# Altium schematic symbol library Cap Pol.Schlib: 1 symbol
Pins are listed as number, name and electrical type; pins without a type are passive.

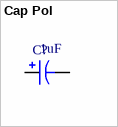
[diagram p0: symbol Cap Pol]

## Cap Pol
designator C?  value 1uF
Polarized Capacitor; Published: 8-Jun-2000; LatestRevisionDate: 17-Jul-2002; LatestRevisionNote: Re-released for DXP Platform.; PackageReference: POLAR0.8; Publisher: Altium Limited; PackageDescription: Polarized Capacitor; 2 Leads
footprint CAP-Electrolitic-Hor-p7.5mm-D16mm-L27mm
footprint CAP-Electrolitic-Hor-LA-p2.5mm-D4mm-L9mm
footprint CAP-Electrolitic-Hor-LA-p7.5mm-D16mm-L27mm
footprint Cap electrolitic radial 10x16-5 (Cap electrolitic radial 10x16-5-Design:Abbas Basereh)
footprint Cap electrolitic radial 8x12-3.5 (Cap electrolitic radial 8x12-3.5-Design:Abbas Basereh)
footprint Cap electrolitic HOR-8x12-P3.5 (Cap electrolitic horisontal 8x12-3.5-Design:Mostafa)
pins: 1, 2
1 alternate drawing of the same symbol